# Altium footprint library CAPMP3216X166.PcbLib: 1 footprints
Each footprint in its own frame and in the unit in brackets; x right, y up, seen from the top. Pads: shape width x height; smd on the part's side, far side on the other; paste and mask are expansions set on the pad; w line width, h text height; cw(c..) or ccw(c..) is an arc to the next point about the centre after c.
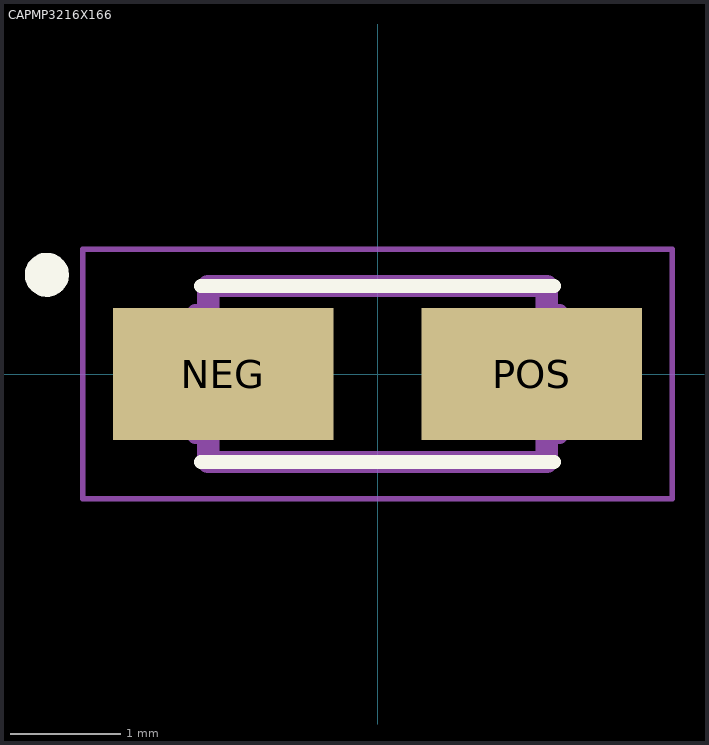
[diagram p0: the footprint, top view; thin cyan lines are the x and y axes]

## CAPMP3216X166 [mm]
pads (2):
  rect 2x1.2 smd: NEG(-1.4,0) POS(1.4,0)
Top Overlay:
  circle w0.2: c-3,0.9 r0.1
  lines w0.127: -1.6,-0.8 1.6,-0.8 ; -1.6,0.8 1.6,0.8
Mechanical 1:
  lines w0.051: -2.673,-1.133 -2.673,1.133 2.673,1.133 2.673,-1.133 -2.673,-1.133
  lines w0.152: -1.651,-0.559 -1.651,0.559 ; 1.651,-0.559 1.651,0.559
  lines w0.203: -1.535,-0.798 1.535,-0.798 1.535,0.798 -1.535,0.798 -1.535,-0.798